# Altium footprint library LibreriaComp.PcbLib: 43 footprints (part 1 of 3)
Each footprint in its own frame and in the unit in brackets; x right, y up, seen from the top. Pads: shape width x height; smd on the part's side, far side on the other; paste and mask are expansions set on the pad; w line width, h text height; cw(c..) or ccw(c..) is an arc to the next point about the centre after c.
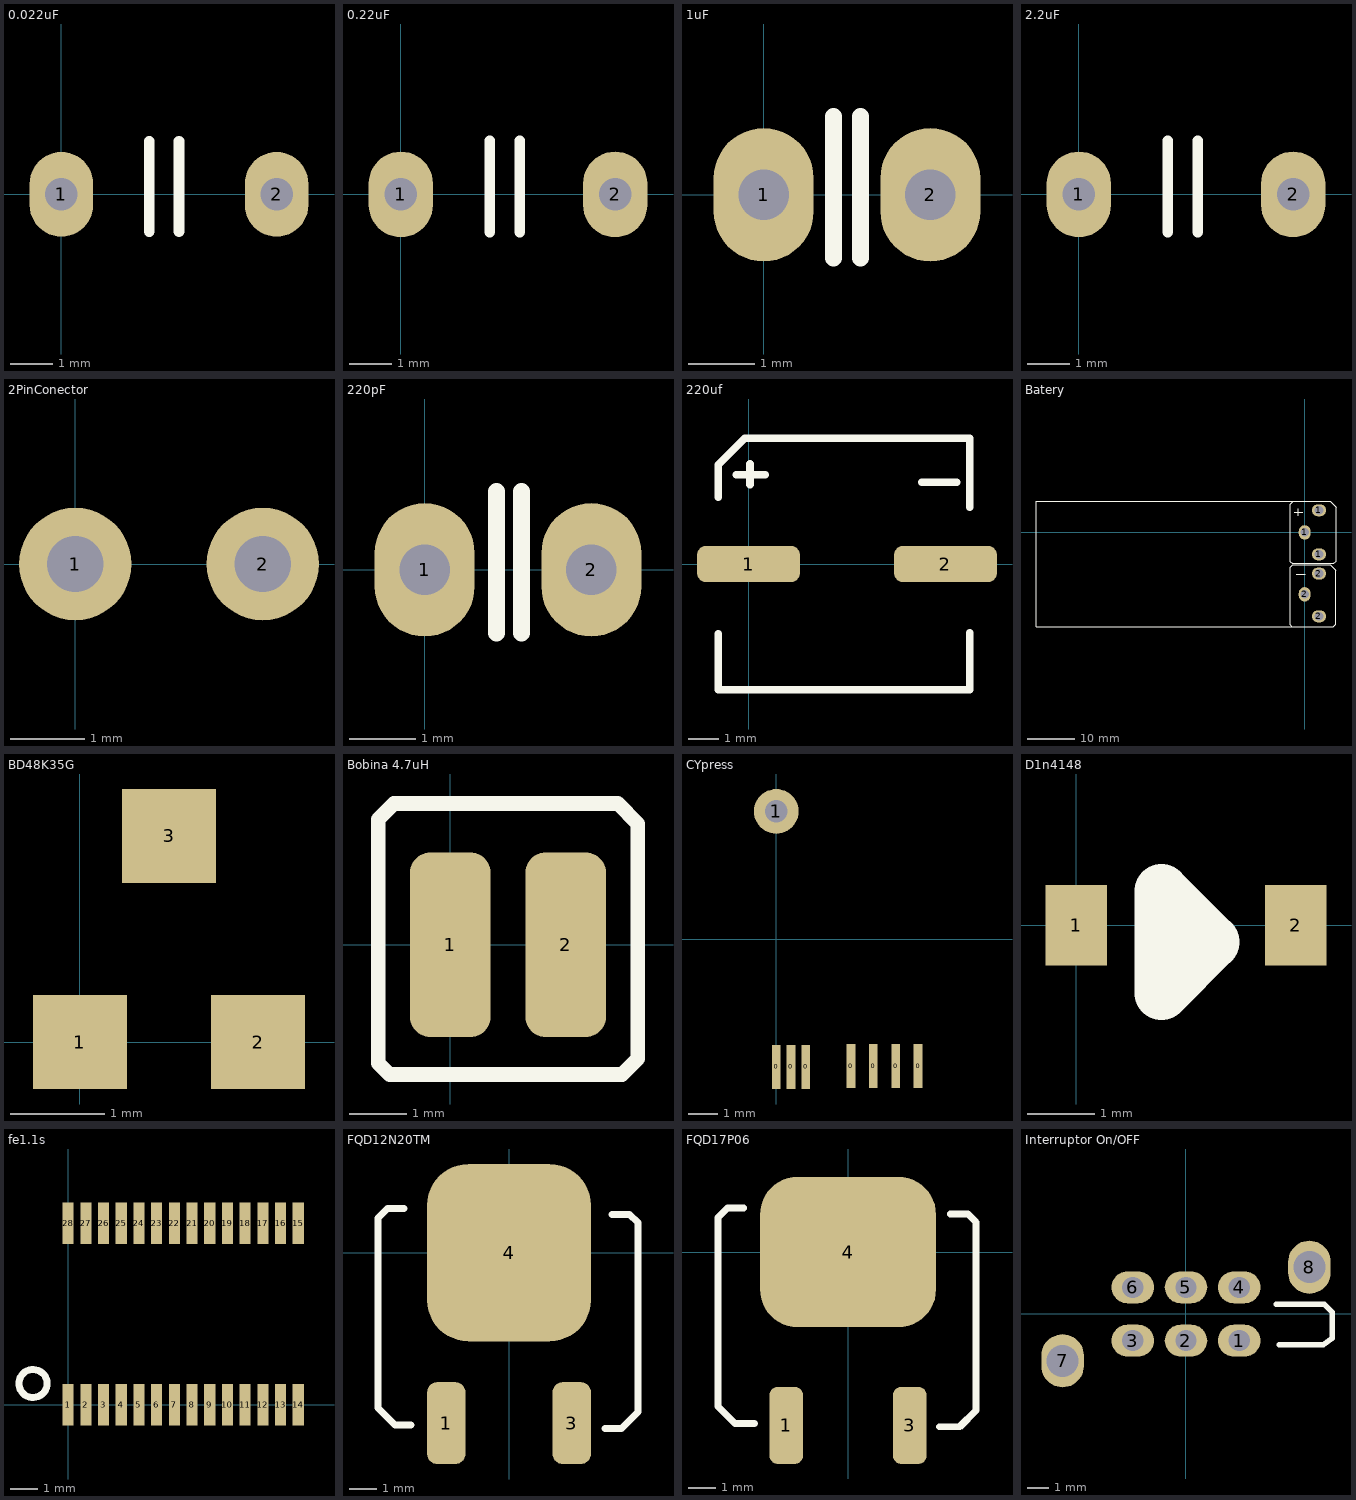
[diagram p0: the footprints below, top view; thin cyan lines are the x and y axes]

## 0.022uF [mm] "condensador de pelicula"
pads (2):
  oval 1.5x2 hole 0.762: 1(0,0) 2(5.08,0)
Top Overlay:
  lines w0.254: 2.075,-0.875 2.075,1.25 ; 2.775,-0.875 2.775,1.25

## 0.22uF [mm] "condensador de pelicula"
pads (2):
  oval 1.5x2 hole 0.762: 1(0,0) 2(5,0)
Top Overlay:
  lines w0.254: 2.075,-0.875 2.075,1.25 ; 2.775,-0.875 2.775,1.25

## 1uF [mm] "condensador de pelicula"
pads (2):
  oval 1.5x2 hole 0.762: 1(0,0) 2(2.5,0)
Top Overlay:
  lines w0.254: 1.05,-0.95 1.05,1.175 ; 1.45,-0.95 1.45,1.175

## 2.2uF [mm] "condensador de pelicula"
pads (2):
  oval 1.5x2 hole 0.762: 1(0,0) 2(5,0)
Top Overlay:
  lines w0.254: 2.075,-0.875 2.075,1.25 ; 2.775,-0.875 2.775,1.25

## 2PinConector [mil]
pads (2):
  round 60 hole 30: 1(0,0) 2(100,0)

## 220pF [mm] "condensador de pelicula"
pads (2):
  oval 1.5x2 hole 0.762: 1(0,0) 2(2.5,0)
Top Overlay:
  lines w0.254: 1.075,-0.95 1.075,1.175 ; 1.45,-0.95 1.45,1.175

## 220uf [mm] "condensador EC"
pads (2):
  rrect50% 3.4x1.2 smd: 1(0,0) 2(6.5,0)
Top Overlay:
  lines w0.254: -1,-2.3 -1,-4.15 7.3,-4.15 7.3,-2.275 ; -1,2.2 -1,3.275 -0.125,4.15 7.3,4.15 7.3,1.875 ; -0.4,2.95 0.55,2.95 ; 0.05,2.625 0.05,3.3 ; 5.725,2.7 6.875,2.7

## Batery [mm] "3Pines"
pads (6):
  oval 2.5x3 hole 1.8: 1(0,0) 2(0,-13)
  oval 3x2.5 hole 1.8: 1(3,-4.635) 1(3,4.635) 2(3,-17.635) 2(3,-8.635)
Top Overlay:
  lines w0.254: -3.075,-18.675 -3.05,-18.7 -3.05,-19.4 -2.675,-19.775 ; -3.05,-19.1 -3.05,-7.8 -3.05,-7.325 -2.5,-6.775 5.325,-6.775 6.525,-7.975 6.525,-19.3 6.05,-19.775 -2.675,-19.775 ; -2.2,4.275 -0.425,4.275 ; -1.75,-8.8 0.075,-8.8 0.125,-8.75 ; -1.3,3.45 -1.3,4.95 ; -2.675,-19.775 -56.4,-19.775 -56.4,6.5 -2.45,6.5 ; -2.45,6.5 5.375,6.5 6.575,5.3 6.575,-6.025 6.1,-6.5 -2.625,-6.5 -3,-6.125 -3,-5.825 -3,5.475 -3,5.95 -2.45,6.5

## BD48K35G [mm]
pads (3):
  rect 1x1 smd: 1(0,0) 2(1.9,0) 3(0.95,2.2)

## Bobina 4.7uH [mm]
pads (2):
  rrect50% 1.4x3.2 smd: 1(0,0) 2(2,0)
Top Overlay:
  lines w0.254: -1.25,-2.05 -1.25,-1.575 -1.25,2.175 -0.975,2.45 2.9,2.45 3.25,2.1 3.25,-1.975 2.975,-2.25 -1.05,-2.25 -1.25,-2.05

## CYpress [mm]
pads (8):
  rect 0.3x1.5 smd: 0(0,-4.35) 0(0.5,-4.35) 0(1,-4.35) 0(2.54,-4.318) 0(3.302,-4.318) 0(4.064,-4.318) 0(4.826,-4.318)
  round 1.524 hole 0.762: 1(0,4.35)

## D1n4148 [mm]
pads (2):
  rect 0.91x1.2 smd: 1(0,0) 2(3.27,0)
Top Overlay:
  lines w0.8: 1.27,-1.016 2.032,-0.254 1.27,0.508 1.27,-1.016

## fe1.1s [mm]
pads (28):
  rect 0.4x1.5 smd: 1(0,0) 2(0.64,0) 3(1.28,0) 4(1.92,0) 5(2.56,0) 6(3.2,0) 7(3.84,0) 8(4.48,0) 9(5.12,0) 10(5.76,0) 11(6.4,0) 12(7.04,0) 13(7.68,0) 14(8.32,0) 15(8.32,6.55) 16(7.68,6.55) 17(7.04,6.55) 18(6.4,6.55) 19(5.76,6.55) 20(5.12,6.55) 21(4.48,6.55) 22(3.84,6.55) 23(3.2,6.55) 24(2.56,6.55) 25(1.92,6.55) 26(1.28,6.55) 27(0.64,6.55) 28(0,6.55)
Top Overlay:
  circle w0.254: c-1.27,0.762 r0.508

## FQD12N20TM [mm]
pads (3):
  rrect50% 1.4x3 smd: 1(-2.3,-6.25) 3(2.3,-6.25)
  rrect50% 6x6.5 smd: 4(0,0)
Top Overlay:
  lines w0.254: -3.85,1.625 -4.45,1.625 -4.8,1.275 -4.8,-5.7 -4.175,-6.325 -3.6,-6.325 ; 3.525,-6.45 4.125,-6.45 4.725,-5.85 4.725,1.1 4.425,1.4 3.775,1.4

## FQD17P06 [mm]
pads (3):
  rrect50% 1.25x2.85 smd: 1(-2.28,-6.4) 3(2.28,-6.4)
  rrect50% 6.5x5.55 smd: 4(0,0)
Top Overlay:
  lines w0.254: -3.85,1.625 -4.45,1.625 -4.8,1.275 -4.8,-5.7 -4.175,-6.325 -3.45,-6.325 ; 3.375,-6.45 4.125,-6.45 4.725,-5.85 4.725,1.1 4.425,1.4 3.775,1.4

## Interruptor On/OFF [mm] "3Pines"
pads (8):
  oval 2x1.5 hole 1: 1(2.5,-1.25) 2(0,-1.25) 3(-2.5,-1.25) 4(2.5,1.25) 5(0,1.25) 6(-2.5,1.25)
  oval 2x2.5 hole 1.5: 7(-5.8,-2.2) 8(5.8,2.2)
Top Overlay:
  lines w0.254: 4.25,0.45 6.5,0.45 6.875,0.075 6.875,-1.15 6.455,-1.45 4.375,-1.45